# EAGLE library part 74HC573 (library Z80 clock)
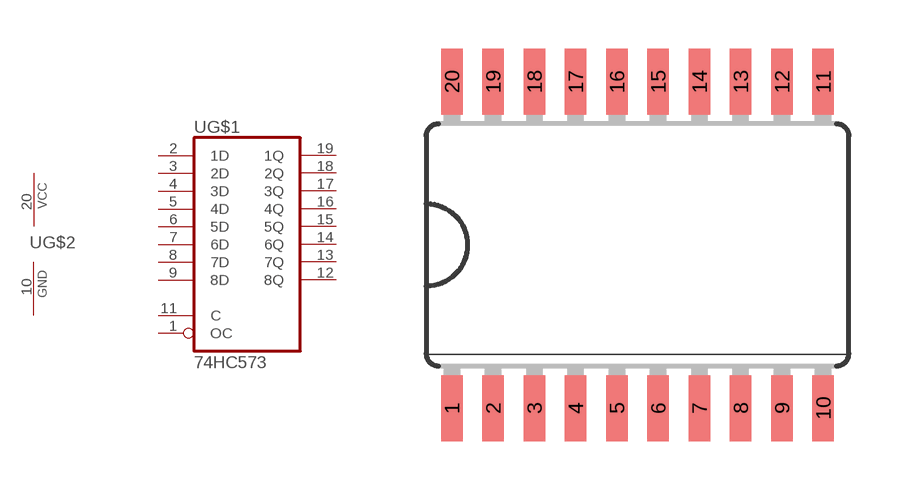
[diagram p2: symbol with the pads of SO20W; footprint SO20W]

Designator prefix U; gates G$1=74573 G$2=PWRN

## 74HC573D  [SO20W]
1  G$1:OC  in
2  G$1:1D  in
3  G$1:2D  in
4  G$1:3D  in
5  G$1:4D  in
6  G$1:5D  in
7  G$1:6D  in
8  G$1:7D  in
9  G$1:8D  in
10  G$2:GND  pwr
11  G$1:C  in
12  G$1:8Q  hiz
13  G$1:7Q  hiz
14  G$1:6Q  hiz
15  G$1:5Q  hiz
16  G$1:4Q  hiz
17  G$1:3Q  hiz
18  G$1:2Q  hiz
19  G$1:1Q  hiz
20  G$2:VCC  pwr

## Footprint SO20W (pad centres in mm)
Wide Small Outline package 300 mil
smd 0.66 x 2.032: 1 -5.715,-5.029; 2 -4.445,-5.029; 3 -3.175,-5.029; 4 -1.905,-5.029; 5 -0.635,-5.029; 6 0.635,-5.029; 7 1.905,-5.029; 8 3.175,-5.029; 9 4.445,-5.029; 10 5.715,-5.029; 11 5.715,5.029; 12 4.445,5.029; 13 3.175,5.029; 14 1.905,5.029; 15 0.635,5.029; 16 -0.635,5.029; 17 -1.905,5.029; 18 -3.175,5.029; 19 -4.445,5.029; 20 -5.715,5.029